# Altium integrated library JTAG_Header.IntLib: 1 symbol
Pins are listed as number, name and electrical type; pins without a type are passive.

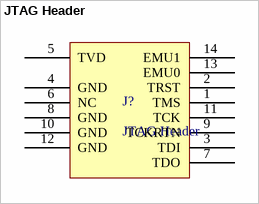
[diagram p0: symbol JTAG Header]

## JTAG Header
designator J?
JTAG Header for DSP 5509
footprint HDR2X7
pins: 1 TMS, 2 TRST, 3 TDI, 4 GND, 5 TVD, 6 NC, 7 TDO, 8 GND, 9 TCKRTN, 10 GND, 11 TCK, 12 GND, 13 EMU0, 14 EMU1